# Altium footprint library AD9172+K71.PcbLib: 46 footprints (part 1 of 3)
Each footprint in its own frame and in the unit in brackets; x right, y up, seen from the top. Pads: shape width x height; smd on the part's side, far side on the other; paste and mask are expansions set on the pad; w line width, h text height; cw(c..) or ccw(c..) is an arc to the next point about the centre after c.
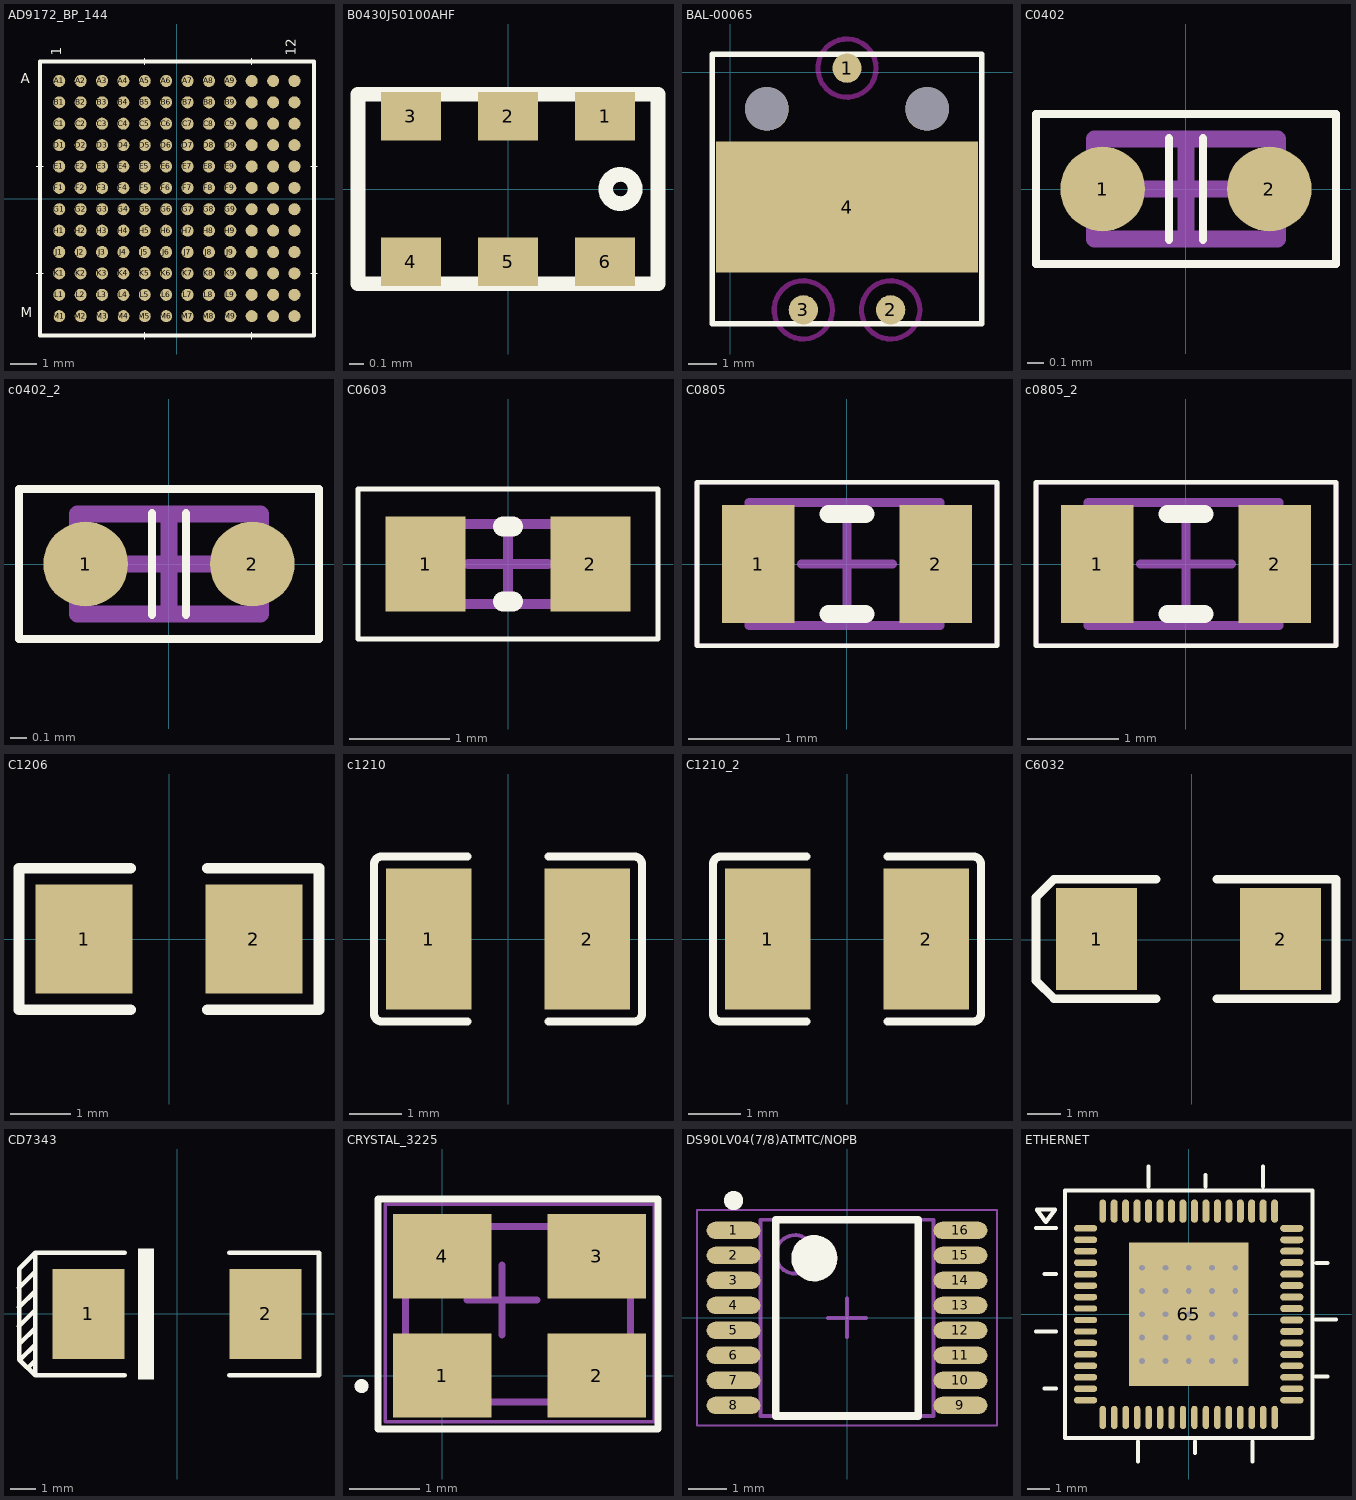
[diagram p0: the footprints below, top view; thin cyan lines are the x and y axes]

## AD9172_BP_144 [mm]
pads (144):
  round 0.45 smd: A1(-4.4,4.4) A2(-3.6,4.4) A3(-2.8,4.4) A4(-2,4.4) A5(-1.2,4.4) A6(-0.4,4.4) A7(0.4,4.4) A8(1.2,4.4) A9(2,4.4) A10(2.8,4.4) A11(3.6,4.4) A12(4.4,4.4) B1(-4.4,3.6) B2(-3.6,3.6) B3(-2.8,3.6) B4(-2,3.6) B5(-1.2,3.6) B6(-0.4,3.6) B7(0.4,3.6) B8(1.2,3.6) B9(2,3.6) B10(2.8,3.6) B11(3.6,3.6) B12(4.4,3.6) C1(-4.4,2.8) C2(-3.6,2.8) C3(-2.8,2.8) C4(-2,2.8) C5(-1.2,2.8) C6(-0.4,2.8) C7(0.4,2.8) C8(1.2,2.8) C9(2,2.8) C10(2.8,2.8) C11(3.6,2.8) C12(4.4,2.8) D1(-4.4,2) D2(-3.6,2) D3(-2.8,2) D4(-2,2) D5(-1.2,2) D6(-0.4,2) D7(0.4,2) D8(1.2,2) D9(2,2) D10(2.8,2) D11(3.6,2) D12(4.4,2) E1(-4.4,1.2) E2(-3.6,1.2) E3(-2.8,1.2) E4(-2,1.2) E5(-1.2,1.2) E6(-0.4,1.2) E7(0.4,1.2) E8(1.2,1.2) E9(2,1.2) E10(2.8,1.2) E11(3.6,1.2) E12(4.4,1.2) F1(-4.4,0.4) F2(-3.6,0.4) F3(-2.8,0.4) F4(-2,0.4) F5(-1.2,0.4) F6(-0.4,0.4) F7(0.4,0.4) F8(1.2,0.4) F9(2,0.4) F10(2.8,0.4) F11(3.6,0.4) F12(4.4,0.4) G1(-4.4,-0.4) G2(-3.6,-0.4) G3(-2.8,-0.4) G4(-2,-0.4) G5(-1.2,-0.4) G6(-0.4,-0.4) G7(0.4,-0.4) G8(1.2,-0.4) G9(2,-0.4) G10(2.8,-0.4) G11(3.6,-0.4) G12(4.4,-0.4) H1(-4.4,-1.2) H2(-3.6,-1.2) H3(-2.8,-1.2) H4(-2,-1.2) H5(-1.2,-1.2) H6(-0.4,-1.2) H7(0.4,-1.2) H8(1.2,-1.2) H9(2,-1.2) H10(2.8,-1.2) H11(3.6,-1.2) H12(4.4,-1.2) J1(-4.4,-2) J2(-3.6,-2) J3(-2.8,-2) J4(-2,-2) J5(-1.2,-2) J6(-0.4,-2) J7(0.4,-2) J8(1.2,-2) J9(2,-2) J10(2.8,-2) J11(3.6,-2) J12(4.4,-2) K1(-4.4,-2.8) K2(-3.6,-2.8) K3(-2.8,-2.8) K4(-2,-2.8) K5(-1.2,-2.8) K6(-0.4,-2.8) K7(0.4,-2.8) K8(1.2,-2.8) K9(2,-2.8) K10(2.8,-2.8) K11(3.6,-2.8) K12(4.4,-2.8) L1(-4.4,-3.6) L2(-3.6,-3.6) L3(-2.8,-3.6) L4(-2,-3.6) L5(-1.2,-3.6) L6(-0.4,-3.6) L7(0.4,-3.6) L8(1.2,-3.6) L9(2,-3.6) L10(2.8,-3.6) L11(3.6,-3.6) L12(4.4,-3.6) M1(-4.4,-4.4) M2(-3.6,-4.4) M3(-2.8,-4.4) M4(-2,-4.4) M5(-1.2,-4.4) M6(-0.4,-4.4) M7(0.4,-4.4) M8(1.2,-4.4) M9(2,-4.4) M10(2.8,-4.4) M11(3.6,-4.4) M12(4.4,-4.4)
Top Overlay:
  lines w0.025: -5.254,-2.8 -5,-2.8 ; -5.254,1.2 -5,1.2 ; -1.2,-5.254 -1.2,-5 ; -1.2,5 -1.2,5.254 ; 2.8,-5.254 2.8,-5 ; 2.8,5 2.8,5.254 ; 5,-2.8 5.254,-2.8 ; 5,1.2 5.254,1.2
  lines w0.152: -5.127,-5.127 5.127,-5.127 5.127,5.127 -5.127,5.127 -5.127,-5.127
  text "A" at -5.842,4.191 h0.64
  text "M" at -5.842,-4.572 h0.64
  text "1" at -4.191,5.334 h0.64
  text "12" at 4.572,5.334 h0.64

## B0430J50100AHF [mm]
pads (6):
  rect 0.41x0.33 smd: 1(0.66,0.495) 2(0,0.495) 3(-0.66,0.495) 4(-0.66,-0.495) 5(0,-0.495) 6(0.66,-0.495)
Top Overlay:
  circle w0.1: c0.765,0 r0.1
  lines w0.1: -1.02,-0.645 1.02,-0.645 1.02,0.645 -1.02,0.645 -1.02,-0.645

## BAL-00065 [mil]
pads (6):
  round 40.2 smd mask+4: 1(160,6) 2(220,-326) 3(100,-326)
  rect 360x180 smd mask+4: 4(160,-185)
  round 60 hole 60 unplated mask+4: ""(50,-50) ""(270,-50)
Top Overlay:
  lines w7: -25,-345 -25,25 345,25 345,-345 -25,-345
Keep-Out Layer:
  circle w7: c220,-326 r40
  circle w7: c100,-326 r40
  circle w7: c160,6 r40
Drill Drawing:
  lines w7: 0,-320 0,0 320,0 320,-320 0,-320

## C0402 [mil]
height 11.81
pads (2):
  round 20 smd: 1(-19.68,0) 2(19.68,0)
Top Overlay:
  lines w1.97: -4,-12 -4,0 -4,12 ; 4,-12 4,0 4,12 ; -35.43,-17.72 -35.43,17.72 35.43,17.72 35.43,-17.72 -35.43,-17.72
Mechanical 13:
  lines w3.94: -21.65,-11.81 21.65,-11.81 21.65,11.81 -21.65,11.81 -21.65,-11.81
Mechanical 15:
  lines w1.97: -35.43,-17.72 -35.43,17.72 35.43,17.72 35.43,-17.72 -35.43,-17.72
  lines w3.94: -9.84,0 9.84,0 ; 0,-9.84 0,9.84
3D body "C 0402.STEP": height 20.68, standoff 0.21, extent -19.68,-10.23 19.69,10.24

## c0402_2 [mil]
pads (2):
  round 20 smd: 1(-19.68,0) 2(19.68,0)
Top Overlay:
  lines w1.97: -4,-12 -4,0 -4,12 ; 4,-12 4,0 4,12 ; -35.43,-17.72 35.43,-17.72 35.43,17.72 -35.43,17.72 -35.43,-17.72
Mechanical 13:
  lines w3.94: -21.65,-11.81 -21.65,11.81 21.65,11.81 21.65,-11.81 -21.65,-11.81
Mechanical 15:
  lines w1.97: -35.43,-17.72 35.43,-17.72 35.43,17.72 -35.43,17.72 -35.43,-17.72
  lines w3.94: -9.84,0 9.84,0 ; 0,-9.84 0,9.84
3D body "C 0402.STEP": height 20.68, standoff 0.21, extent -19.68,-10.23 19.69,10.24

## C0603 [mm]
height 1.2
pads (2):
  rect 0.8x0.95 smd: 1(-0.825,0) 2(0.825,0)
Top Overlay:
  lines w0.05: -1.5,-0.75 -1.5,0.75 1.5,0.75 1.5,-0.75 -1.5,-0.75
  lines w0.2: -0.05,-0.375 0.05,-0.375 ; -0.05,0.375 0.05,0.375
Mechanical 13:
  lines w0.1: -0.8,-0.4 -0.8,0.4 0.8,0.4 0.8,-0.4 -0.8,-0.4
Mechanical 15:
  lines w0.1: -0.4,0 0.4,0 ; 0,-0.4 0,0.4
3D body "C 0603.STEP": height 0.81, standoff -0.01, extent -0.8,-0.41 0.8,0.41

## C0805 [mm]
height 0.5
pads (2):
  rect 0.8x1.3 smd: 1(-0.975,0) 2(0.975,0)
Top Overlay:
  lines w0.05: -1.65,-0.9 1.65,-0.9 1.65,0.9 -1.65,0.9 -1.65,-0.9
  lines w0.2: -0.2,-0.55 0.2,-0.55 ; -0.2,0.55 0.2,0.55
Mechanical 13:
  lines w0.1: -1.075,-0.675 -1.075,0.675 1.025,0.675 1.025,-0.675 -1.075,-0.675
Mechanical 15:
  lines w0.05: -1.65,-0.9 1.65,-0.9 1.65,0.9 -1.65,0.9 -1.65,-0.9
  lines w0.1: -0.5,0 0.5,0 ; 0,-0.5 0,0.5
3D body "C 0805.STEP": height 0.51, standoff -0.01, extent -1,-0.61 1,0.61

## c0805_2 [mm]
pads (2):
  rect 0.8x1.3 smd: 1(-0.975,0) 2(0.975,0)
Top Overlay:
  lines w0.05: -1.65,-0.9 -1.65,0.9 1.65,0.9 1.65,-0.9 -1.65,-0.9
  lines w0.2: -0.2,-0.55 0.2,-0.55 ; -0.2,0.55 0.2,0.55
Mechanical 13:
  lines w0.1: -1.075,-0.675 1.025,-0.675 1.025,0.675 -1.075,0.675 -1.075,-0.675
Mechanical 15:
  lines w0.05: -1.65,-0.9 -1.65,0.9 1.65,0.9 1.65,-0.9 -1.65,-0.9
  lines w0.1: -0.5,0 0.5,0 ; 0,-0.5 0,0.5
3D body "C 0805.STEP": height 0.51, standoff -0.01, extent -1,-0.61 1,0.61

## C1206 [mm]
pads (2):
  rect 1.6x1.8 smd: 1(-1.4,0) 2(1.4,0)
Top Overlay:
  lines w0.178: -0.635,-1.168 -2.476,-1.168 -2.476,1.168 -0.635,1.168 ; 0.635,-1.168 2.476,-1.168 2.476,1.168 0.635,1.168
3D body "C 1206.STEP": height 1.21, standoff -0.01, extent -1.6,-0.81 1.6,0.81

## c1210 [mm]
pads (2):
  rect 1.635x2.7 smd: 1(-1.517,0) 2(1.517,0)
Top Overlay:
  lines w0.152: -0.776,-1.579 -2.411,-1.579 cw(c-2.411,-1.426) -2.564,-1.426 -2.564,1.426 cw(c-2.411,1.426) -2.411,1.579 -0.776,1.579 ; 0.776,-1.579 2.411,-1.579 ccw(c2.411,-1.426) 2.564,-1.426 2.564,1.426 ccw(c2.411,1.426) 2.411,1.579 0.776,1.579
Top Paste:
  region: -0.7,-1.25 -0.7,-0.559 -0.8,-0.459 -1.156,-0.459 -1.256,-0.359 -1.256,0.359 -1.156,0.459 -0.8,0.459 -0.7,0.559 -0.7,1.25 -0.8,1.35 -2.235,1.35 -2.335,1.25 -2.335,-1.25 -2.235,-1.35 -0.8,-1.35
  region: 0.7,-1.25 0.7,-0.559 0.8,-0.459 1.156,-0.459 1.256,-0.359 1.256,0.359 1.156,0.459 0.8,0.459 0.7,0.559 0.7,1.25 0.8,1.35 2.235,1.35 2.335,1.25 2.335,-1.25 2.235,-1.35 0.8,-1.35

## C1210_2 [mm]
pads (2):
  rect 1.635x2.7 smd: 1(-1.517,0) 2(1.517,0)
Top Overlay:
  lines w0.152: -0.776,-1.579 -2.411,-1.579 cw(c-2.411,-1.426) -2.564,-1.426 -2.564,1.426 cw(c-2.411,1.426) -2.411,1.579 -0.776,1.579 ; 0.776,-1.579 2.411,-1.579 ccw(c2.411,-1.426) 2.564,-1.426 2.564,1.426 ccw(c2.411,1.426) 2.411,1.579 0.776,1.579
Top Paste:
  region: 0.7,-1.25 0.7,-0.559 0.8,-0.459 1.156,-0.459 1.256,-0.359 1.256,0.359 1.156,0.459 0.8,0.459 0.7,0.559 0.7,1.25 0.8,1.35 2.235,1.35 2.335,1.25 2.335,-1.25 2.235,-1.35 0.8,-1.35
  region: -0.7,-1.25 -0.7,-0.559 -0.8,-0.459 -1.156,-0.459 -1.256,-0.359 -1.256,0.359 -1.156,0.459 -0.8,0.459 -0.7,0.559 -0.7,1.25 -0.8,1.35 -2.235,1.35 -2.335,1.25 -2.335,-1.25 -2.235,-1.35 -0.8,-1.35

## C6032 [mil]
height 98.43
pads (2):
  rect 95x120 smd: 1(-112,1) 2(104,1)
Top Overlay:
  lines w10: -42,-69 -156,-69 -162,-69 -183,-48 -183,50 -163,70 -162,71 -42,71 ; 29,-69 169,-69 169,71 29,71
3D body "TAJ-C.STEP": height 102.36, standoff 0, extent -121.11,-61.99 115.11,63.99

## CD7343 [mm]
pads (2):
  rect 2.8x3.5 smd: 1(-3.45,0) 2(3.45,0)
Top Overlay:
  rectangle: -1.527,-2.542 -0.892,2.538
  lines w0.178: -6.151,-0.474 -5.524,0.152 ; -6.151,0.263 -5.524,0.889 ; -6.151,1.025 -5.524,1.651 ; -6.092,-1.761 -5.524,-1.194 ; -6.092,-1.126 -5.524,-0.559 ; -5.817,-2.108 -5.524,-1.829 ; -2.032,-2.388 -5.524,-2.388 ; -2.032,2.388 -5.524,2.388 ; 2.032,-2.388 5.524,-2.388 5.524,2.388 2.032,2.388 ; -5.524,-2.388 -6.147,-1.778 -6.147,1.753 -5.524,2.388 ; -5.524,-2.388 -5.524,2.388

## CRYSTAL_3225 [mm]
pads (4):
  rect 1.4x1.2 smd: 1(0,0) 2(2.2,0) 3(2.2,1.7) 4(0,1.7)
Top Overlay:
  circle w0.1: c-1.15,-0.15 r0.05
  lines w0.1: -0.914,-0.762 -0.914,2.515 3.073,2.515 3.073,-0.762 -0.914,-0.762
Mechanical 13:
  lines w0.1: -0.521,-0.379 2.679,-0.379 2.679,2.121 -0.521,2.121 -0.521,-0.379
Mechanical 15:
  lines w0.05: -0.813,-0.66 3.023,-0.66 3.023,2.438 -0.813,2.438 -0.813,-0.66
  lines w0.1: 0.35,1.075 1.35,1.075 ; 0.85,0.575 0.85,1.575
3D body: height 0.7, standoff 0.1, extent -0.508,-0.412 2.692,2.088

## DS90LV04(7/8)ATMTC/NOPB [mm] "TSSOP (PW)"
height 1.2
pads (16):
  oval 1.4x0.45 smd: 1(-2.95,2.275) 2(-2.95,1.625) 3(-2.95,0.975) 4(-2.95,0.325) 5(-2.95,-0.325) 6(-2.95,-0.975) 7(-2.95,-1.625) 8(-2.95,-2.275) 9(2.95,-2.275) 10(2.95,-1.625) 11(2.95,-0.975) 12(2.95,-0.325) 13(2.95,0.325) 14(2.95,0.975) 15(2.95,1.625) 16(2.95,2.275)
Top Overlay:
  circle w0.6: c-0.85,1.55 r0.3
  circle w0.25: c-2.95,3.05 r0.125
  lines w0.2: -1.85,-2.55 1.85,-2.55 1.85,2.55 -1.85,2.55 -1.85,-2.55
Mechanical 13:
  circle w0.1: c-1.35,1.65 r0.5
  lines w0.1: -2.25,-2.55 2.25,-2.55 2.25,2.55 -2.25,2.55 -2.25,-2.55
Mechanical 15:
  lines w0.05: -3.9,-2.8 3.9,-2.8 3.9,2.8 -3.9,2.8 -3.9,-2.8
  lines w0.1: -0.5,0 0.5,0 ; 0,-0.5 0,0.5
3D body: height 1.2, standoff 0.05, extent -2.25,-2.55 2.25,2.55

## ETHERNET [mm]
height 1.1
pads (65):
  oval 1.016x0.279 smd: 1(-4.5,3.75) 2(-4.5,3.25) 3(-4.5,2.75) 4(-4.5,2.25) 5(-4.5,1.75) 6(-4.5,1.25) 7(-4.5,0.75) 8(-4.5,0.25) 9(-4.5,-0.25) 10(-4.5,-0.75) 11(-4.5,-1.25) 12(-4.5,-1.75) 13(-4.5,-2.25) 14(-4.5,-2.75) 15(-4.5,-3.25) 16(-4.5,-3.75) 33(4.5,-3.75) 34(4.5,-3.25) 35(4.5,-2.75) 36(4.5,-2.25)
  oval 0.279x1.016 smd: 17(-3.75,-4.5) 18(-3.25,-4.5) 19(-2.75,-4.5) 20(-2.25,-4.5) 21(-1.75,-4.5) 22(-1.25,-4.5) 23(-0.75,-4.5) 24(-0.25,-4.5) 25(0.25,-4.5) 26(0.75,-4.5) 27(1.25,-4.5) 28(1.75,-4.5) 29(2.25,-4.5) 30(2.75,-4.5) 31(3.25,-4.5) 32(3.75,-4.5) 64(-3.75,4.5)
  oval 1.016x0.305 smd: 37(4.5,-1.75) 38(4.5,-1.25) 39(4.5,-0.75) 40(4.5,-0.25) 41(4.5,0.25) 42(4.5,0.75) 43(4.5,1.25) 44(4.5,1.75) 45(4.5,2.25) 46(4.5,2.75) 47(4.5,3.25) 48(4.5,3.75)
  oval 0.305x1.016 smd: 49(3.75,4.5) 50(3.25,4.5) 51(2.75,4.5) 52(2.25,4.5) 53(1.75,4.5) 54(1.25,4.5) 55(0.75,4.5) 56(0.25,4.5) 57(-0.25,4.5) 58(-0.75,4.5) 59(-1.25,4.5) 60(-1.75,4.5) 61(-2.25,4.5) 62(-2.75,4.5) 63(-3.25,4.5)
  rect 5.21x6.25 smd: 65(0,0)
via 0,0 diameter 0.457 hole 0.254
via 0,1.016 diameter 0.457 hole 0.254
via 0,2.032 diameter 0.457 hole 0.254
via 0,-1.016 diameter 0.457 hole 0.254
via 0,-2.032 diameter 0.457 hole 0.254
via -1.016,0 diameter 0.457 hole 0.254
via -2.032,0 diameter 0.457 hole 0.254
via 1.016,0 diameter 0.457 hole 0.254
via 2.032,0 diameter 0.457 hole 0.254
via 1.016,1.016 diameter 0.457 hole 0.254
via 1.016,2.032 diameter 0.457 hole 0.254
via 1.016,-1.016 diameter 0.457 hole 0.254
via 1.016,-2.032 diameter 0.457 hole 0.254
via 2.032,1.016 diameter 0.457 hole 0.254
via 2.032,2.032 diameter 0.457 hole 0.254
via 2.032,-1.016 diameter 0.457 hole 0.254
via 2.032,-2.032 diameter 0.457 hole 0.254
via -1.016,1.016 diameter 0.457 hole 0.254
via -1.016,2.032 diameter 0.457 hole 0.254
via -1.016,-1.016 diameter 0.457 hole 0.254
via -1.016,-2.032 diameter 0.457 hole 0.254
via -2.032,1.016 diameter 0.457 hole 0.254
via -2.032,2.032 diameter 0.457 hole 0.254
via -2.032,-1.016 diameter 0.457 hole 0.254
via -2.032,-2.032 diameter 0.457 hole 0.254
Top Overlay:
  lines w0.178: -6.662,-0.743 -5.798,-0.743 ; -6.662,3.757 -5.798,3.757 ; -6.292,-3.243 -5.798,-3.243 ; -6.292,1.757 -5.798,1.757 ; -2.217,-6.414 -2.217,-5.551 ; -1.76,5.575 -1.76,6.438 ; 0.283,-6.044 0.283,-5.551 ; 0.74,5.575 0.74,6.068 ; 2.783,-6.414 2.783,-5.551 ; 3.24,5.575 3.24,6.438 ; 5.563,-2.718 6.056,-2.718 ; 5.563,-0.229 6.426,-0.229 ; 5.566,2.243 6.06,2.243 ; -6.625,4.571 -6.233,4.025 -5.825,4.571 -6.625,4.571 ; -5.4,-5.4 5.4,-5.4 5.4,5.4 -5.4,5.4 -5.4,-5.4